# Altium schematic symbol library SCH - POWER - SWITCHMODE - TI TPS628112A-Q1RWY.SchLib: 1 symbol
Pins are listed as number, name and electrical type; pins without a type are passive.

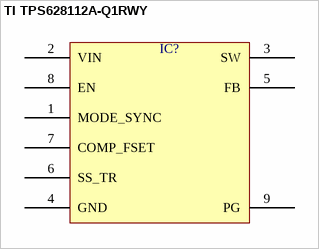
[diagram p0: symbol TI TPS628112A-Q1RWY]

## TI TPS628112A-Q1RWY
designator IC?  (value not drawn)
pins: 1 MODE_SYNC, 2 VIN, 3 SW, 4 GND, 5 FB, 6 SS_TR, 7 COMP_FSET, 8 EN, 9 PG